# Altium schematic symbol library Schlib.SchLib: 4 symbols
Pins are listed as number, name and electrical type; pins without a type are passive.

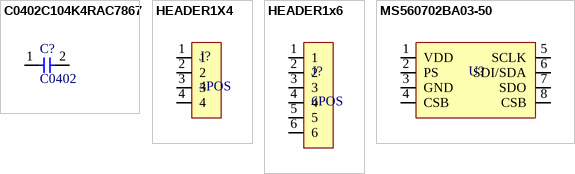
[diagram p0: symbols C0402C104K4RAC7867 to MS560702BA03-50]

## C0402C104K4RAC7867
designator C?, comment C0402
CAP CER 0.1UF 16V X7R 0402
pins: 1, 2

## HEADER1X4
designator J?, comment 4POS
CONN HEADER VERT 4POS 2.54MM
footprint HEADER1X4
pins: 1, 2, 3, 4

## HEADER1x6
designator J?, comment 6POS
CONN HEADER VERT 6POS 2.54MM
footprint HEADER1X4
pins: 1, 2, 3, 4, 5, 6

## MS560702BA03-50
designator U?
SENSOR 17.4PSIA 24BIT 8SMD
footprint SON125P300X500X100-8N
pins: 1 VDD, 2 PS, 3 GND, 4 CSB, 5 SCLK, 6 SDI/SDA, 7 SDO, 8 CSB